# EAGLE library part TS3USB221 (library Bat-Components)
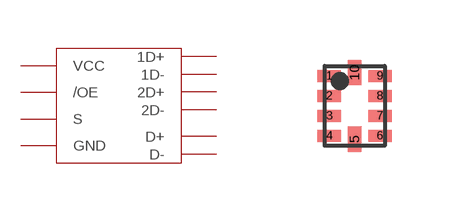
[diagram p13: symbol with the pads of µQFN-10; footprint µQFN-10]

Designator prefix -

## TS3USB221  [µQFN-10]
1  1D+
2  1D-
3  2D+
4  2D-
5  GND
6  /OE
7  D-
8  D+
9  S
10  VCC

## Footprint µQFN-10 (pad centres in mm)
smd 0.58 x 0.3: 1 -0.635,0.75; 2 -0.635,0.25; 3 -0.635,-0.25; 4 -0.635,-0.75; 6 0.635,-0.75; 7 0.635,-0.25; 8 0.635,0.25; 9 0.635,0.75
smd 0.35 x 0.63: 5 0,-0.835; 10 0,0.835